# Altium footprint library aiskylab-14Connectors-18Audio-VideoCon.PcbLib: 1 footprints
Each footprint in its own frame and in the unit in brackets; x right, y up, seen from the top. Pads: shape width x height; smd on the part's side, far side on the other; paste and mask are expansions set on the pad; w line width, h text height; cw(c..) or ccw(c..) is an arc to the next point about the centre after c.
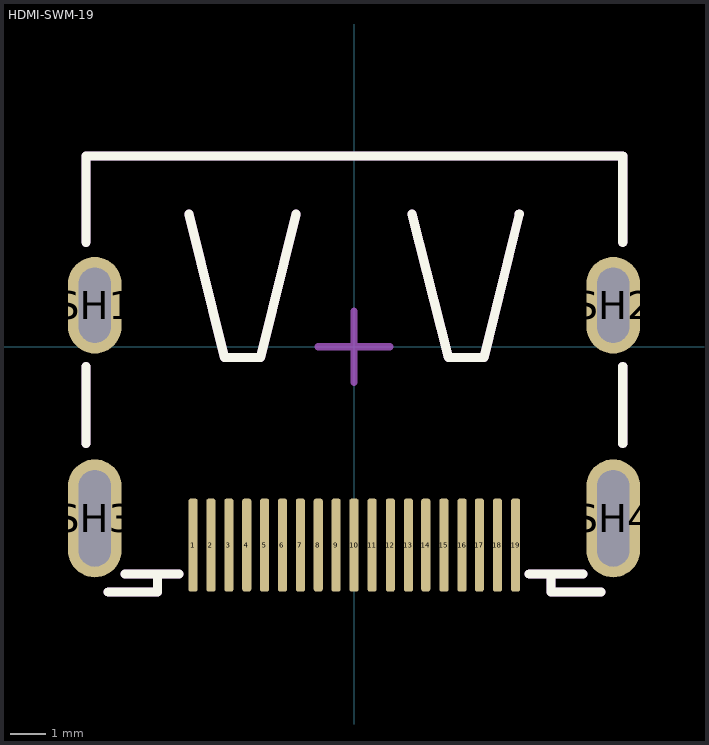
[diagram p0: the footprint, top view; thin cyan lines are the x and y axes]

## HDMI-SWM-19 [mm] "HDMI-SWM-19"
pads (23):
  rrect50% 0.254x2.6 smd: 1(-4.5,-5.55) 2(-4,-5.55) 3(-3.5,-5.55) 4(-3,-5.55) 5(-2.5,-5.55) 6(-2,-5.55) 7(-1.5,-5.55) 8(-1,-5.55) 9(-0.5,-5.55) 10(0,-5.55) 11(0.508,-5.55) 12(1.016,-5.55) 13(1.524,-5.55) 14(2.007,-5.55) 15(2.515,-5.55) 16(3.023,-5.55) 17(3.505,-5.55) 18(4.013,-5.55) 19(4.521,-5.55)
  oval 1.5x2.7 hole 2.1 slot 0.9 at 0 deg: SH1(-7.25,1.16) SH2(7.25,1.16)
  oval 1.5x3.3 hole 2.7 slot 0.9 at 0 deg: SH3(-7.25,-4.8) SH4(7.25,-4.8)
Top Overlay:
  lines w0.254: -7.5,-2.708 -7.5,-0.558 ; -7.5,2.921 -7.5,5.334 7.518,5.334 7.518,2.921 ; -6.875,-6.862 -5.5,-6.862 -5.5,-6.362 ; -6.4,-6.362 -5.5,-6.362 ; -4.9,-6.362 -5.5,-6.362 ; -4.619,3.708 -3.619,-0.305 -2.619,-0.305 -1.619,3.708 ; 1.626,3.708 2.642,-0.305 3.632,-0.305 4.623,3.708 ; 4.902,-6.362 5.512,-6.362 ; 6.401,-6.362 5.512,-6.362 ; 6.909,-6.862 5.512,-6.862 5.512,-6.362 ; 7.518,-2.708 7.518,-0.558
Top Assembly:
  lines w0.254: -7.5,-2.708 -7.5,-0.558 ; -7.5,2.921 -7.5,5.334 7.518,5.334 7.518,2.921 ; -6.875,-6.862 -5.5,-6.862 -5.5,-6.362 ; -6.4,-6.362 -5.5,-6.362 ; -4.9,-6.362 -5.5,-6.362 ; -4.619,3.708 -3.619,-0.305 -2.619,-0.305 -1.619,3.708 ; 1.626,3.708 2.642,-0.305 3.632,-0.305 4.623,3.708 ; 4.902,-6.362 5.512,-6.362 ; 6.401,-6.362 5.512,-6.362 ; 6.909,-6.862 5.512,-6.862 5.512,-6.362 ; 7.518,-2.708 7.518,-0.558
Top Component Center:
  lines w0.2: -1,0 1,0 ; 0,-1 0,1
3D body "1.stp": height 6.14, standoff -2.14, extent -7.5,-6.781 7.5,5.219